# Altium footprint library PCB - IND - CHIP - IND 1206_3216.PCBLIB: 1 footprints
Each footprint in its own frame and in the unit in brackets; x right, y up, seen from the top. Pads: shape width x height; smd on the part's side, far side on the other; paste and mask are expansions set on the pad; w line width, h text height; cw(c..) or ccw(c..) is an arc to the next point about the centre after c.
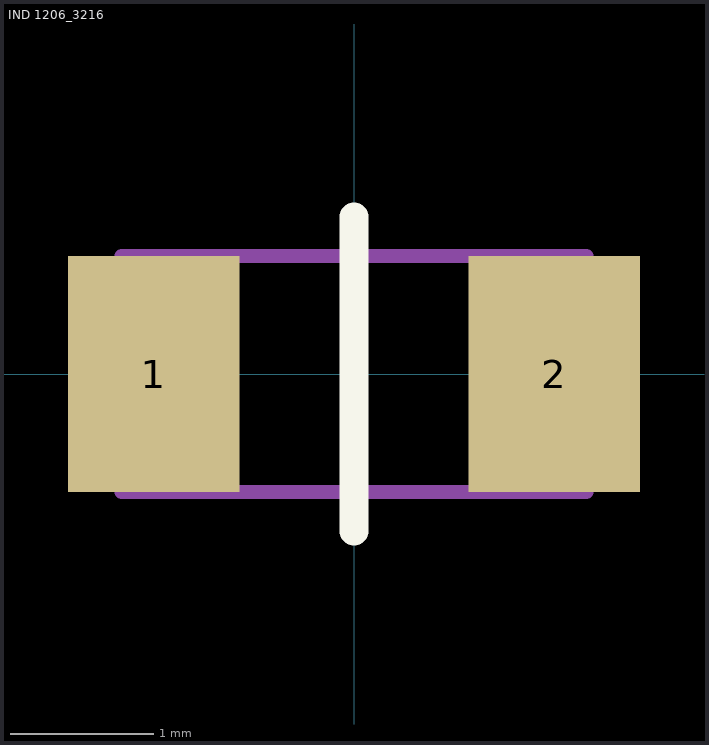
[diagram p0: the footprint, top view; thin cyan lines are the x and y axes]

## IND 1206_3216 [mm] "Chip Resistor, 2-Leads, Body 3.13x1.55mm, IPC Medium Density"
height 0.7
pads (2):
  rect 1.2x1.65 smd: 1(-1.4,0) 2(1.4,0)
Top Overlay:
  lines w0.2: 0,-1.1 0,1.1
Top Assembly:
  lines w0.1: -1.625,-0.825 1.625,-0.825 1.625,0.825 -1.625,0.825 -1.625,-0.825
3D body "LQM31PN4R7M00L.STEP": height 0.95, standoff 0, extent -1.6,-0.8 1.6,0.8